# EAGLE library part ADP2300AUJZ-R7 (library open_covg)
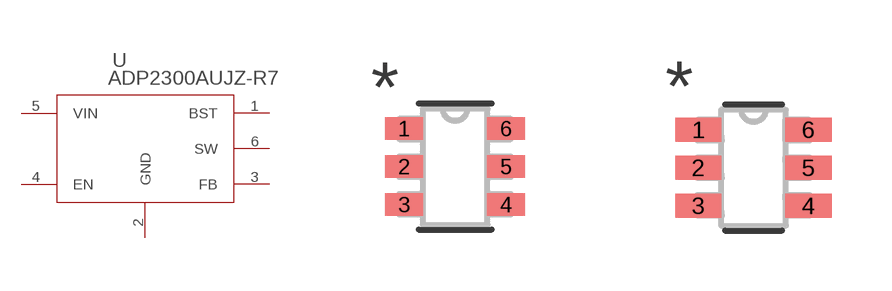
[diagram p15: symbol with the pads of UJ_6_ADI; footprints UJ_6_ADI, UJ_6_ADI-M]

Designator prefix U

## ADP2300AUJZ-R7 (BUILT_BY: EMA_UL_Team; MANUFACTURER_PART_NUMBER: ADP2300AUJZ-R7; SOURCELIBRARY: Analog_2015-01-06; VENDOR: Analog Devices Inc)  [UJ_6_ADI]
1  BST  pas
2  GND  pwr
3  FB  in
4  EN  out
5  VIN  in
6  SW  out

## ADP2300AUJZ-R7UJ_6_ADI-M (BUILT_BY: EMA_UL_Team; MANUFACTURER_PART_NUMBER: ADP2300AUJZ-R7; SOURCELIBRARY: Analog_2015-01-06; VENDOR: Analog Devices Inc)  [UJ_6_ADI-M]
Pads as for UJ_6_ADI

## ADP2300AUJZ-R7UJ_6_ADI-L (BUILT_BY: EMA_UL_Team; MANUFACTURER_PART_NUMBER: ADP2300AUJZ-R7; SOURCELIBRARY: Analog_2015-01-06; VENDOR: Analog Devices Inc)  [UJ_6_ADI-L]
Pads as for UJ_6_ADI

## Footprint UJ_6_ADI (pad centres in mm)
smd 0.953 x 0.559: 1 -1.276,0.95; 2 -1.276,0; 3 -1.276,-0.95; 4 1.276,-0.95; 5 1.276,0; 6 1.276,0.95

## Footprint UJ_6_ADI-M (pad centres in mm)
smd 1.156 x 0.61: 1 -1.378,0.95; 2 -1.378,0; 3 -1.378,-0.95; 4 1.378,-0.95; 5 1.378,0; 6 1.378,0.95

## Footprint UJ_6_ADI-L (pad centres in mm)
smd 0.749 x 0.508: 1 -1.175,0.95; 2 -1.175,0; 3 -1.175,-0.95; 4 1.175,-0.95; 5 1.175,0; 6 1.175,0.95